# Altium schematic symbol library FTSH-105-01-L-DV-K.SchLib: 1 symbol
Pins are listed as number, name and electrical type; pins without a type are passive.

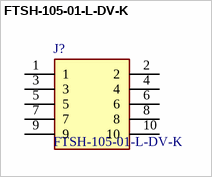
[diagram p0: symbol FTSH-105-01-L-DV-K]

## FTSH-105-01-L-DV-K
designator J?
Samtec, FTSH, 10 Way, 2 Row, Straight Pin Header; Geometry.Height: 6.1mm; Manufacturer_Name: SAMTEC; Manufacturer_Part_Number: FTSH-105-01-L-DV-K; Mouser Part Number: 200-FTSH10501LDVK; Mouser Price/Stock: https://www.mouser.co.uk/ProductDetail/Samtec/FTSH-105-01-L-DV-K?qs=%252B5JSS813miOqo3Vy%252BvhCFg%3D%3D; Arrow Part Number: FTSH-105-01-L-DV-K; Arrow Price/Stock: https://www.arrow.com/en/products/ftsh-105-01-l-dv-k/samtec?utm_currency=USD&region=europe; Datasheet Link: https://www.arrow.com/en/products/ftsh-105-01-l-dv-k/samtec
footprint FTSH10501LDVK
pins: 1, 2, 3, 4, 5, 6, 7, 8, 9, 10